# EAGLE library part ICM-20948 (library IMU)
3-Axis gyroscope and 3-Axis accelerometer Datasheet <https://invensense.tdk.com/wp-content/uploads/2024/03/DS-000189-ICM-20948-v1.6.pdf>
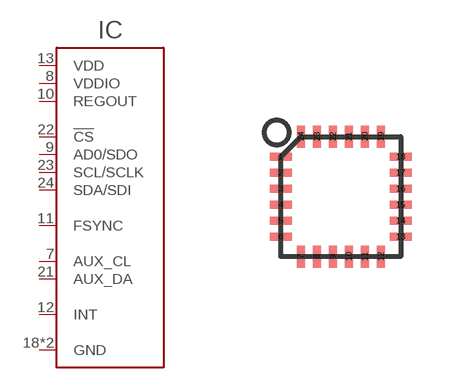
[diagram p6: symbol with the pads of QFN24_3MM_NOEP; footprint QFN24_3MM_NOEP]

Designator prefix IC

## ICM-20948- (MANF: TDK; MANF#: ICM-20948)  [QFN24_3MM_NOEP]
7  AUX_CL
8  VDDIO
9  AD0/SDO
10  REGOUT
11  FSYNC
12  INT
13  VDD
18  GND
20  GND
21  AUX_DA
22  !CS
23  SCL/SCLK
24  SDA/SDI

## Footprint QFN24_3MM_NOEP (pad centres in mm)
3x3mm QFN .4mm pitch 3D model <https://kicad.github.io/packages3d/Package_DFN_QFN.html>
smd 0.55 x 0.2: 1 -1.5,1; 2 -1.5,0.6; 3 -1.5,0.2; 4 -1.5,-0.2; 5 -1.5,-0.6; 6 -1.5,-1; 13 1.5,-1; 14 1.5,-0.6; 15 1.5,-0.2; 16 1.5,0.2; 17 1.5,0.6; 18 1.5,1
smd 0.2 x 0.55: 7 -1,-1.5; 8 -0.6,-1.5; 9 -0.2,-1.5; 10 0.2,-1.5; 11 0.6,-1.5; 12 1,-1.5; 19 1,1.5; 20 0.6,1.5; 21 0.2,1.5; 22 -0.2,1.5; 23 -0.6,1.5; 24 -1,1.5